# Altium footprint library Molex Footprints.PcbLib: 498 footprints (part 3 of 32)
Each footprint in its own frame and in the unit in brackets; x right, y up, seen from the top. Pads: shape width x height; smd on the part's side, far side on the other; paste and mask are expansions set on the pad; w line width, h text height; cw(c..) or ccw(c..) is an arc to the next point about the centre after c.
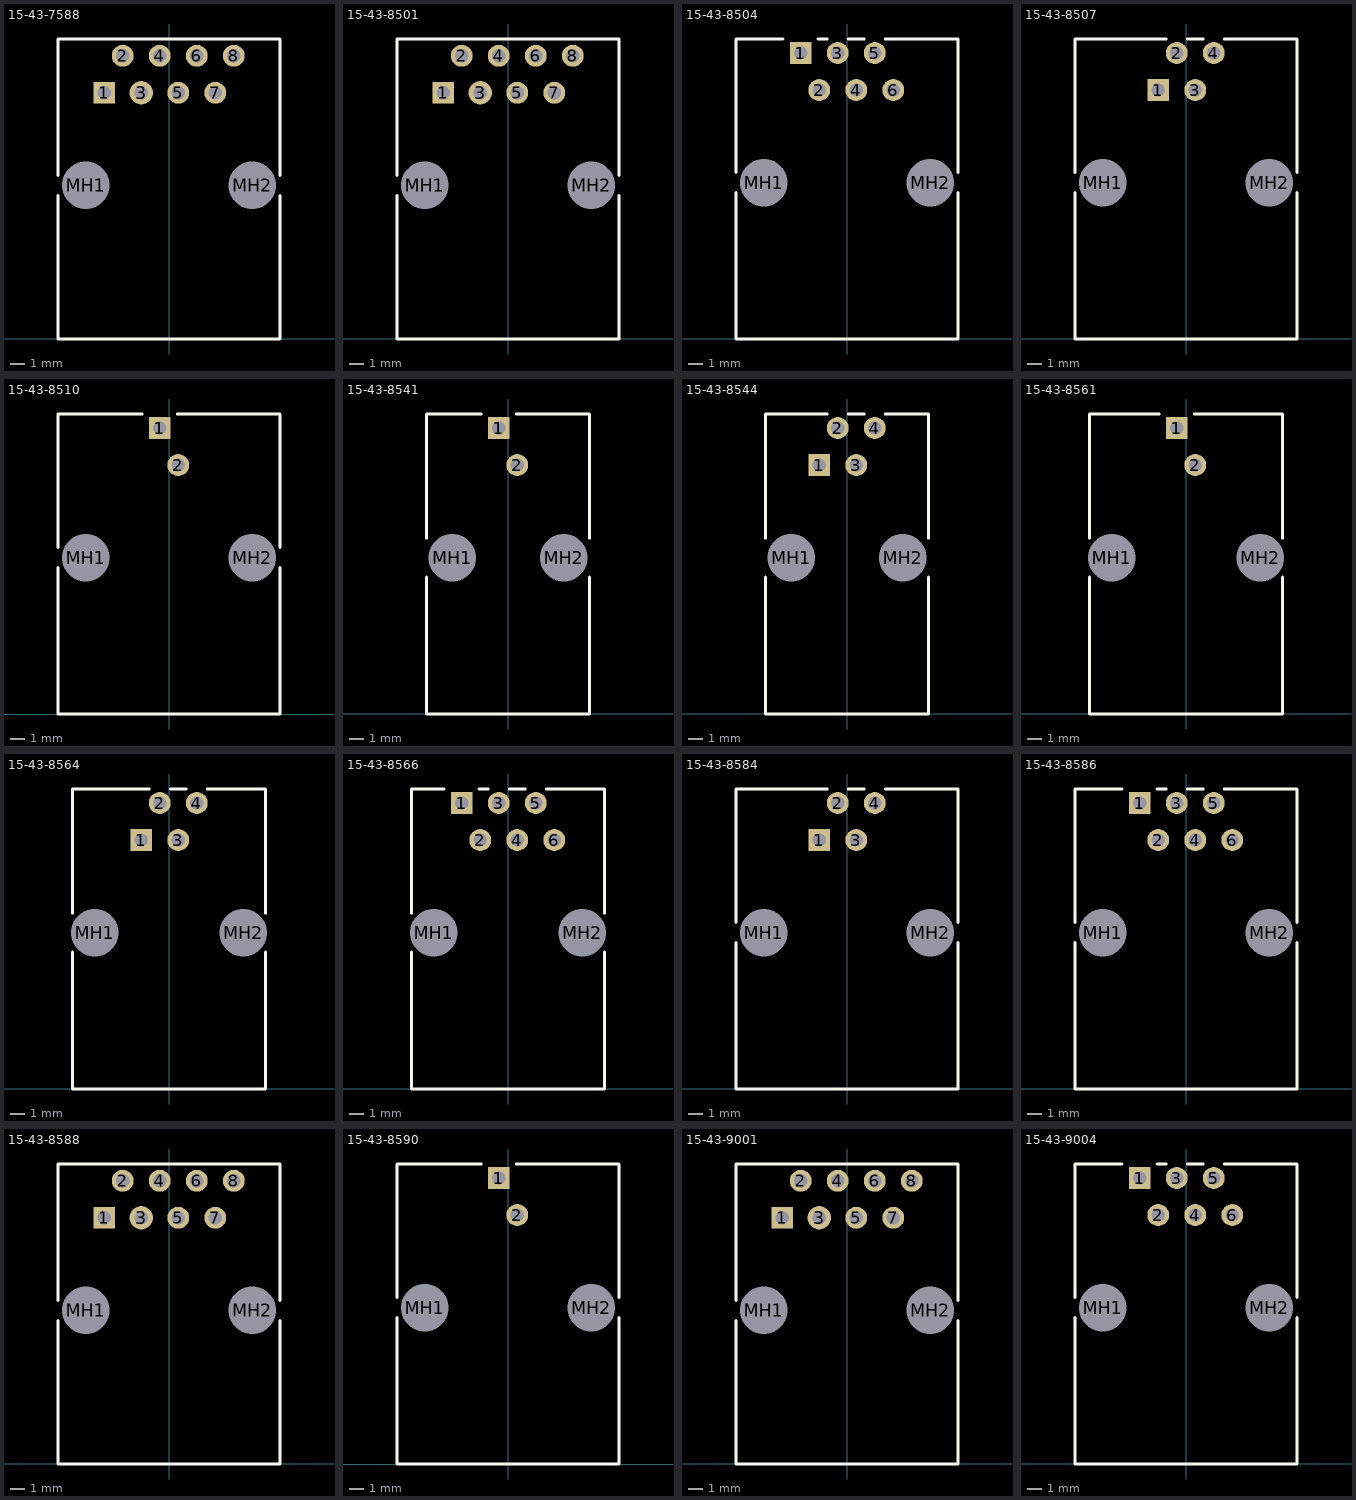
[diagram p2: the footprints below, top view; thin cyan lines are the x and y axes]

## 15-43-7588 [mm] "Connector; PCB Jack, Thru-Hole; 1-Port, 8 Positions, 8 Loaded; Unshielded without Lightpipes; Right Angle"
height 16
pads (10):
  rect 1.5x1.5 hole 0.9: 1(-4.445,16.89)
  round 1.5 hole 0.9: 2(-3.175,19.43) 4(-0.635,19.43) 5(0.635,16.89) 6(1.905,19.43) 7(3.175,16.89) 8(4.445,19.43)
  round 1.6 hole 0.9: 3(-1.905,16.89)
  round 2.95 hole 3.25 unplated: MH1(-5.715,10.54) MH2(5.715,10.54)
Top Overlay:
  lines w0.2: -7.62,9.853 -7.62,0 7.62,0 7.62,9.853 ; -7.62,11.227 -7.62,20.58 7.62,20.58 7.62,11.227

## 15-43-8501 [mm] "Connector; PCB Jack, Thru-Hole; 1-Port; Unshielded without Lightpipes; Right Angle"
height 16
pads (10):
  rect 1.5x1.5 hole 0.9: 1(-4.445,16.89)
  round 1.5 hole 0.9: 2(-3.175,19.43) 4(-0.635,19.43) 5(0.635,16.89) 6(1.905,19.43) 7(3.175,16.89) 8(4.445,19.43)
  round 1.6 hole 0.9: 3(-1.905,16.89)
  round 2.95 hole 3.25 unplated: MH1(-5.715,10.54) MH2(5.715,10.54)
Top Overlay:
  lines w0.2: -7.62,9.853 -7.62,0 7.62,0 7.62,9.853 ; -7.62,11.227 -7.62,20.58 7.62,20.58 7.62,11.227

## 15-43-8504 [mm] "Connector; PCB Jack, Thru-Hole; 1-Port; Unshielded without Lightpipes; Right Angle"
height 16
pads (8):
  rect 1.5x1.5 hole 0.9: 1(-3.175,19.61)
  round 1.5 hole 0.9: 2(-1.905,17.07) 3(-0.635,19.61) 4(0.635,17.07) 5(1.905,19.61) 6(3.175,17.07)
  round 2.95 hole 3.25 unplated: MH1(-5.715,10.72) MH2(5.715,10.72)
Top Overlay:
  lines w0.2: -7.62,10.033 -7.62,0 7.62,0 7.62,10.033 ; -7.62,11.407 -7.62,20.57 -4.375,20.57 ; -1.975,20.57 -1.355,20.57 ; 0.085,20.57 1.185,20.57 ; 2.625,20.57 7.62,20.57 7.62,11.407

## 15-43-8507 [mm] "Connector; PCB Jack, Thru-Hole; 1-Port; Unshielded without Lightpipes; Right Angle"
height 16
pads (6):
  rect 1.5x1.5 hole 0.9: 1(-1.905,17.07)
  round 1.5 hole 0.9: 2(-0.635,19.61) 3(0.635,17.07) 4(1.905,19.61)
  round 2.95 hole 3.25 unplated: MH1(-5.715,10.72) MH2(5.715,10.72)
Top Overlay:
  lines w0.2: -7.62,10.033 -7.62,0 7.62,0 7.62,10.033 ; -7.62,11.407 -7.62,20.57 -1.355,20.57 ; 0.085,20.57 1.185,20.57 ; 2.625,20.57 7.62,20.57 7.62,11.407

## 15-43-8510 [mm] "Connector; PCB Jack, Thru-Hole; 1-Port; Unshielded without Lightpipes; Right Angle"
height 16
pads (4):
  rect 1.5x1.5 hole 0.9: 1(-0.635,19.61)
  round 1.5 hole 0.9: 2(0.635,17.07)
  round 2.95 hole 3.25 unplated: MH1(-5.715,10.72) MH2(5.715,10.72)
Top Overlay:
  lines w0.2: -7.62,10.033 -7.62,0 7.62,0 7.62,10.033 ; -7.62,11.407 -7.62,20.57 -1.835,20.57 ; 0.565,20.57 7.62,20.57 7.62,11.407

## 15-43-8541 [mm] "Connector; PCB Jack, Thru-Hole; 1-Port, 4 Positions, 2 Loaded; Unshielded without Lightpipes; Right Angle"
height 16
pads (4):
  rect 1.5x1.5 hole 0.9: 1(-0.635,19.61)
  round 1.5 hole 0.9: 2(0.635,17.07)
  round 2.95 hole 3.25 unplated: MH1(-3.81,10.72) MH2(3.81,10.72)
Top Overlay:
  lines w0.2: -5.59,9.388 -5.59,0 5.59,0 5.59,9.388 ; -5.59,12.052 -5.59,20.57 -1.835,20.57 ; 0.565,20.57 5.59,20.57 5.59,12.052

## 15-43-8544 [mm] "Connector; PCB Jack, Thru-Hole; 1-Port, 4 Positions, 4 Loaded; Unshielded without Lightpipes; Right Angle"
height 16
pads (6):
  rect 1.5x1.5 hole 0.9: 1(-1.905,17.07)
  round 1.5 hole 0.9: 2(-0.635,19.61) 3(0.635,17.07) 4(1.905,19.61)
  round 2.95 hole 3.25 unplated: MH1(-3.81,10.72) MH2(3.81,10.72)
Top Overlay:
  lines w0.2: -5.59,9.388 -5.59,0 5.59,0 5.59,9.388 ; -5.59,12.052 -5.59,20.57 -1.355,20.57 ; 0.085,20.57 1.185,20.57 ; 2.625,20.57 5.59,20.57 5.59,12.052

## 15-43-8561 [mm] "Connector; PCB Jack, Thru-Hole; 1-Port, 6 Positions, 2 Loaded; Unshielded without Lightpipes; Right Angle"
height 16
pads (4):
  rect 1.5x1.5 hole 0.9: 1(-0.635,19.61)
  round 1.5 hole 0.9: 2(0.635,17.07)
  round 2.95 hole 3.25 unplated: MH1(-5.08,10.72) MH2(5.08,10.72)
Top Overlay:
  lines w0.2: -6.605,9.388 -6.605,0 6.605,0 6.605,9.388 ; -6.605,12.052 -6.605,20.57 -1.835,20.57 ; 0.565,20.57 6.605,20.57 6.605,12.052

## 15-43-8564 [mm] "Connector; PCB Jack, Thru-Hole; 1-Port, 6 Positions, 4 Loaded; Unshielded without Lightpipes; Right Angle"
height 16
pads (6):
  rect 1.5x1.5 hole 0.9: 1(-1.905,17.07)
  round 1.5 hole 0.9: 2(-0.635,19.61) 3(0.635,17.07) 4(1.905,19.61)
  round 2.95 hole 3.25 unplated: MH1(-5.08,10.72) MH2(5.08,10.72)
Top Overlay:
  lines w0.2: -6.605,9.388 -6.605,0 6.605,0 6.605,9.388 ; -6.605,12.052 -6.605,20.57 -1.355,20.57 ; 0.085,20.57 1.185,20.57 ; 2.625,20.57 6.605,20.57 6.605,12.052

## 15-43-8566 [mm] "Connector; PCB Jack, Thru-Hole; 1-Port, 6 Positions, 6 Loaded; Unshielded without Lightpipes; Right Angle"
height 16
pads (8):
  rect 1.5x1.5 hole 0.9: 1(-3.175,19.61)
  round 1.5 hole 0.9: 2(-1.905,17.07) 3(-0.635,19.61) 4(0.635,17.07) 5(1.905,19.61) 6(3.175,17.07)
  round 2.95 hole 3.25 unplated: MH1(-5.08,10.72) MH2(5.08,10.72)
Top Overlay:
  lines w0.2: -6.605,9.388 -6.605,0 6.605,0 6.605,9.388 ; -6.605,12.052 -6.605,20.57 -4.375,20.57 ; -1.975,20.57 -1.355,20.57 ; 0.085,20.57 1.185,20.57 ; 2.625,20.57 6.605,20.57 6.605,12.052

## 15-43-8584 [mm] "Connector; PCB Jack, Thru-Hole; 1-Port, 8 Positions, 4 Loaded; Unshielded without Lightpipes; Right Angle"
height 16
pads (6):
  rect 1.5x1.5 hole 0.9: 1(-1.905,17.07)
  round 1.5 hole 0.9: 2(-0.635,19.61) 3(0.635,17.07) 4(1.905,19.61)
  round 2.95 hole 3.25 unplated: MH1(-5.715,10.72) MH2(5.715,10.72)
Top Overlay:
  lines w0.2: -7.62,10.033 -7.62,0 7.62,0 7.62,10.033 ; -7.62,11.407 -7.62,20.57 -1.355,20.57 ; 0.085,20.57 1.185,20.57 ; 2.625,20.57 7.62,20.57 7.62,11.407

## 15-43-8586 [mm] "Connector; PCB Jack, Thru-Hole; 1-Port, 8 Positions, 6 Loaded; Unshielded without Lightpipes; Right Angle"
height 16
pads (8):
  rect 1.5x1.5 hole 0.9: 1(-3.175,19.61)
  round 1.5 hole 0.9: 2(-1.905,17.07) 3(-0.635,19.61) 4(0.635,17.07) 5(1.905,19.61) 6(3.175,17.07)
  round 2.95 hole 3.25 unplated: MH1(-5.715,10.72) MH2(5.715,10.72)
Top Overlay:
  lines w0.2: -7.62,10.033 -7.62,0 7.62,0 7.62,10.033 ; -7.62,11.407 -7.62,20.57 -4.375,20.57 ; -1.975,20.57 -1.355,20.57 ; 0.085,20.57 1.185,20.57 ; 2.625,20.57 7.62,20.57 7.62,11.407

## 15-43-8588 [mm] "Connector; PCB Jack, Thru-Hole; 1-Port, 8 Positions, 8 Loaded; Unshielded without Lightpipes; Right Angle"
height 16
pads (10):
  rect 1.5x1.5 hole 0.9: 1(-4.445,16.89)
  round 1.5 hole 0.9: 2(-3.175,19.43) 4(-0.635,19.43) 5(0.635,16.89) 6(1.905,19.43) 7(3.175,16.89) 8(4.445,19.43)
  round 1.6 hole 0.9: 3(-1.905,16.89)
  round 2.95 hole 3.25 unplated: MH1(-5.715,10.54) MH2(5.715,10.54)
Top Overlay:
  lines w0.2: -7.62,9.853 -7.62,0 7.62,0 7.62,9.853 ; -7.62,11.227 -7.62,20.58 7.62,20.58 7.62,11.227

## 15-43-8590 [mm] "Connector; PCB Jack, Thru-Hole; 1-Port, 8 Positions, 2 Loaded; Unshielded without Lightpipes; Right Angle"
height 16
pads (4):
  rect 1.5x1.5 hole 0.9: 1(-0.635,19.61)
  round 1.5 hole 0.9: 2(0.635,17.07)
  round 2.95 hole 3.25 unplated: MH1(-5.715,10.72) MH2(5.715,10.72)
Top Overlay:
  lines w0.2: -7.62,10.033 -7.62,0 7.62,0 7.62,10.033 ; -7.62,11.407 -7.62,20.57 -1.835,20.57 ; 0.565,20.57 7.62,20.57 7.62,11.407

## 15-43-9001 [mm] "Connector; PCB Jack, Thru-Hole; 1-Port; Unshielded without Lightpipes; Right Angle"
height 16
pads (10):
  rect 1.5x1.5 hole 0.9: 1(-4.445,16.89)
  round 1.5 hole 0.9: 2(-3.175,19.43) 4(-0.635,19.43) 5(0.635,16.89) 6(1.905,19.43) 7(3.175,16.89) 8(4.445,19.43)
  round 1.6 hole 0.9: 3(-1.905,16.89)
  round 2.95 hole 3.25 unplated: MH1(-5.715,10.54) MH2(5.715,10.54)
Top Overlay:
  lines w0.2: -7.62,9.853 -7.62,0 7.62,0 7.62,9.853 ; -7.62,11.227 -7.62,20.58 7.62,20.58 7.62,11.227

## 15-43-9004 [mm] "Connector; PCB Jack, Thru-Hole; 1-Port; Unshielded without Lightpipes; Right Angle"
height 16
pads (8):
  rect 1.5x1.5 hole 0.9: 1(-3.175,19.61)
  round 1.5 hole 0.9: 2(-1.905,17.07) 3(-0.635,19.61) 4(0.635,17.07) 5(1.905,19.61) 6(3.175,17.07)
  round 2.95 hole 3.25 unplated: MH1(-5.715,10.72) MH2(5.715,10.72)
Top Overlay:
  lines w0.2: -7.62,10.033 -7.62,0 7.62,0 7.62,10.033 ; -7.62,11.407 -7.62,20.57 -4.375,20.57 ; -1.975,20.57 -1.355,20.57 ; 0.085,20.57 1.185,20.57 ; 2.625,20.57 7.62,20.57 7.62,11.407